# Altium footprint library TO-247_0.PcbLib: 1 footprints
Each footprint in its own frame and in the unit in brackets; x right, y up, seen from the top. Pads: shape width x height; smd on the part's side, far side on the other; paste and mask are expansions set on the pad; w line width, h text height; cw(c..) or ccw(c..) is an arc to the next point about the centre after c.
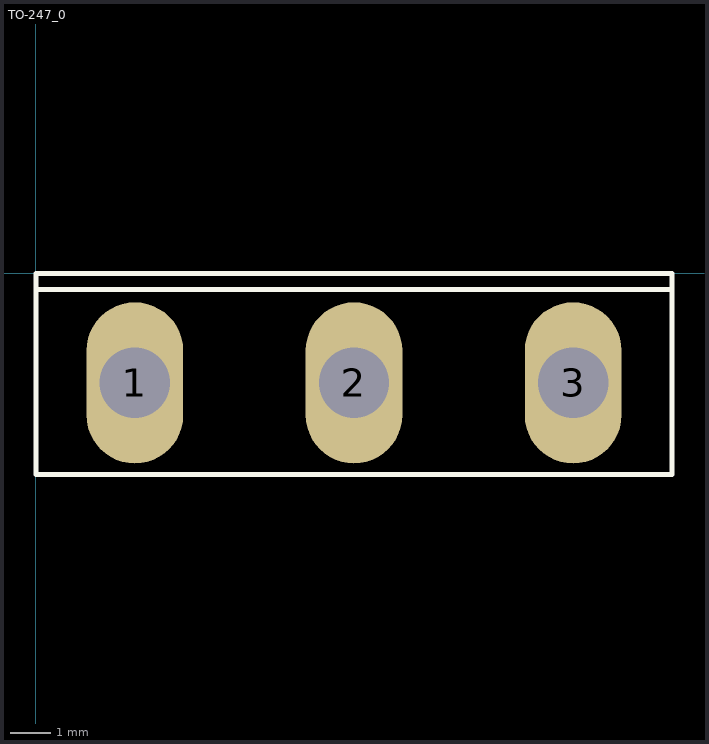
[diagram p0: the footprint, top view; thin cyan lines are the x and y axes]

## TO-247_0 [mm] "TO-247 vertical"
pads (3):
  oval 2.4x4 hole 1.75: 1(2.46,-2.72) 2(7.9,-2.72) 3(13.34,-2.72)
Top Overlay:
  lines w0.127: 0,-0.4 15.8,-0.4 ; 0,-5 0,0 15.8,0 15.8,-5 0,-5
3D body "TO-247_factory.stp": height 24.8, standoff -17.9, extent 0,-5 15.6,0